# Altium schematic symbol library Components.SchLib: 39 symbols
Pins are listed as number, name and electrical type; pins without a type are passive.

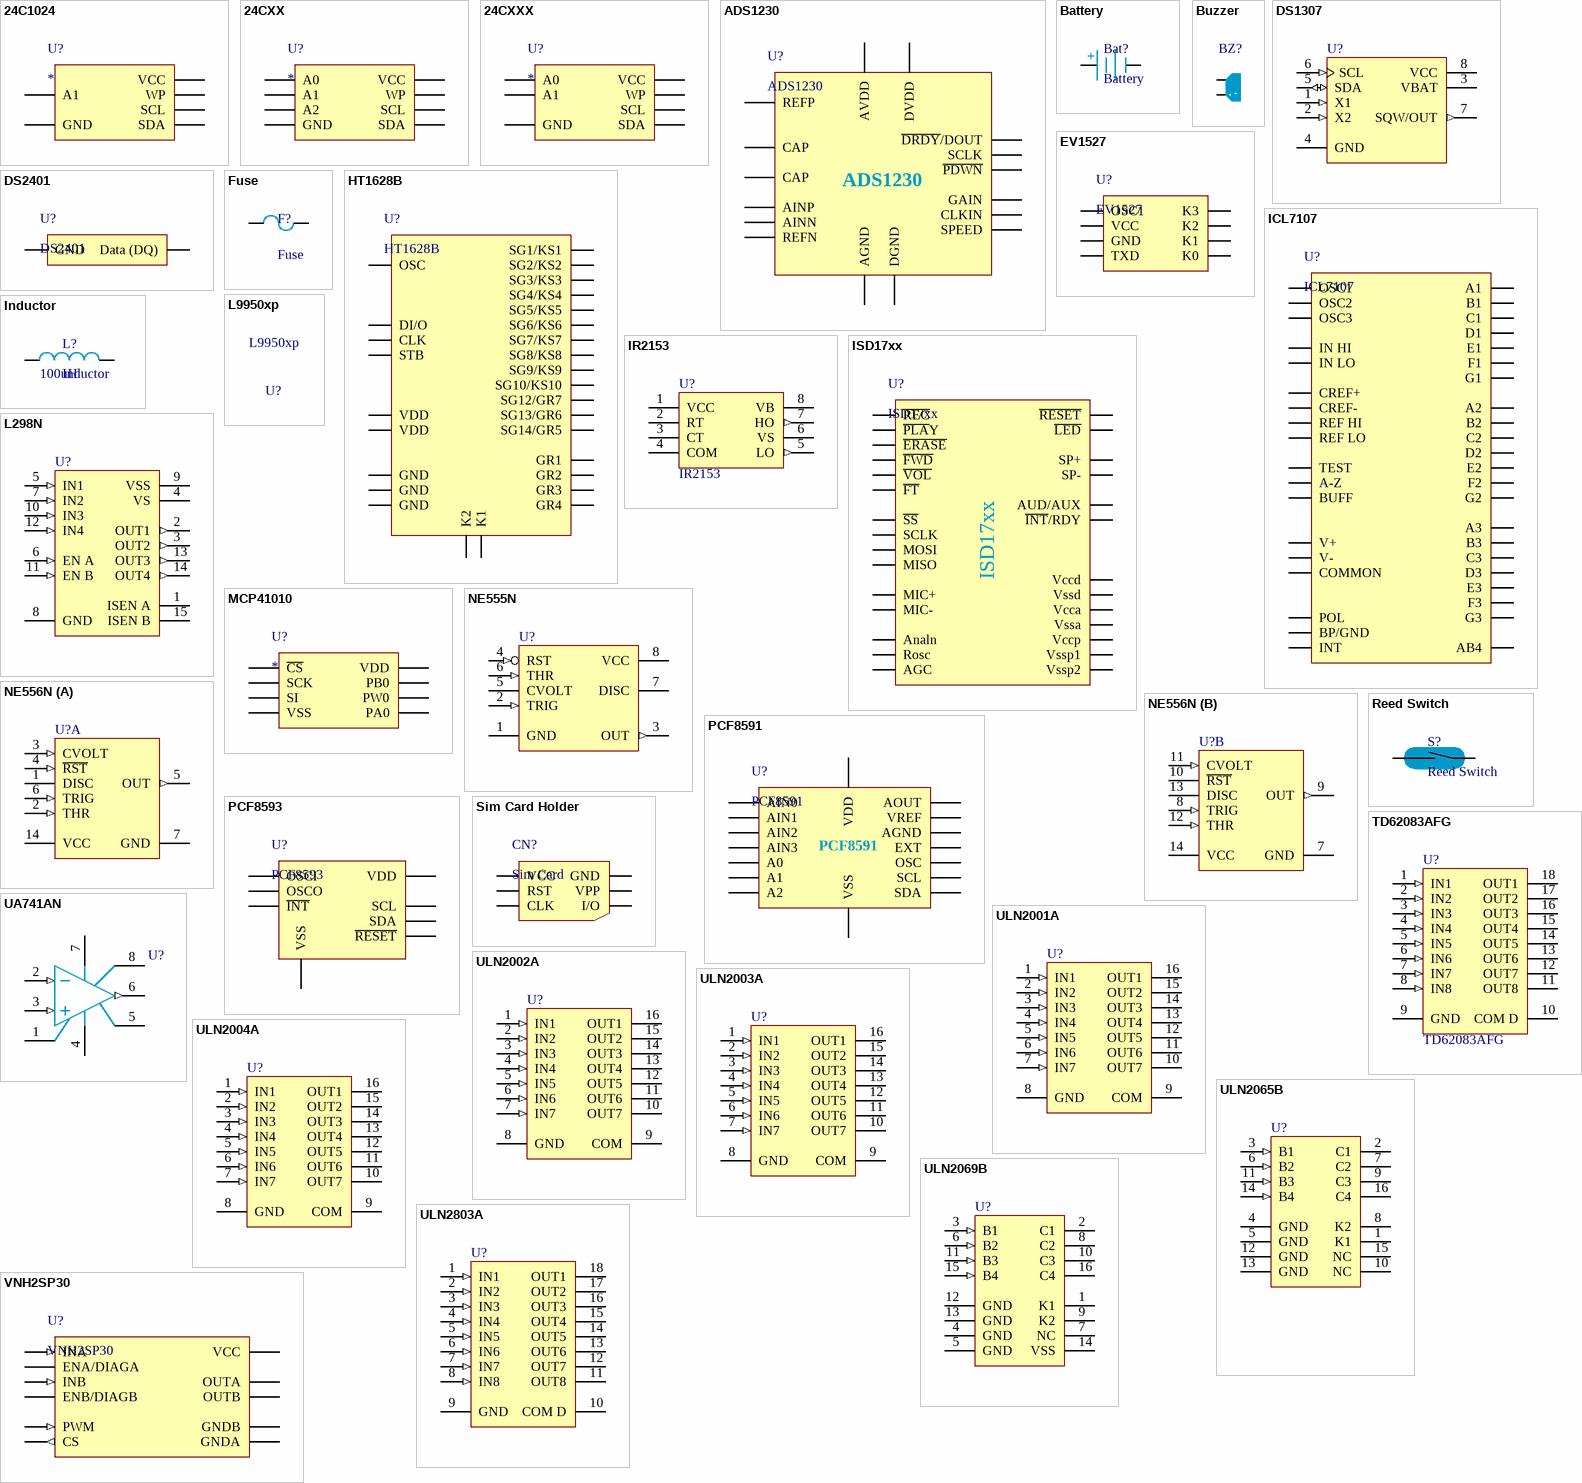
[diagram p0: symbols 24C1024 to VNH2SP30]

## 24C1024
designator U?
2-Wire Serial EEPROM
footprint DIP8
footprint TSSOP8
pins: 2 A1, 4 GND, 5 SDA, 6 SCL, 7 WP, 8 VCC

## 24CXX
designator U?
2-Wire Serial EEPROM
footprint DIP8
footprint TSSOP8
pins: 1 A0, 2 A1, 3 A2, 4 GND, 5 SDA, 6 SCL, 7 WP, 8 VCC

## 24CXXX
designator U?
2-Wire Serial EEPROM
footprint DIP8
footprint TSSOP8
pins: 1 A0, 2 A1, 4 GND, 5 SDA, 6 SCL, 7 WP, 8 VCC

## ADS1230
designator U?
20-Bit Analog-to-Digital Converter For Bridge Sensors
footprint TSSOP16
pins: 1 DVDD, 2 DGND, 3 CLKIN, 4 GAIN, 5 CAP, 6 CAP, 7 AINP, 8 AINN, 9 REFN, 10 REFP, 11 AGND, 12 AVDD, 13 SPEED, 14 ~{PDWN}, 15 SCLK, 16 ~{DRDY}/DOUT

## Battery
designator Bat?
footprint CR2032 (Battery holder)
pins: 1 +, 2 -

## Buzzer
designator BZ?  (value not drawn)
Piezo Buzzer
footprint Buzzer-12 (12mm Piezo Buzzer)
pins: A, K
text: +

## DS1307
designator U?
64 X 8 Serial Real-Time Clock; Published: 13-Oct-2000; LatestRevisionDate: 17-Jul-2002; LatestRevisionNote: Re-released for DXP Platform.; DatasheetVersion: 10-Aug-1999; PackageVersion: 1999; PackageReference: DIP8; Publisher: Altium Limited; PackageDescription: DIP, 8-Pin, Row Spacing 7.62 mm, Pitch 2.54 mm; ComponentLink1Description: Manufacturer Link; ComponentLink1URL: http://www.maxim-ic.com/; ComponentLink2Description: Datasheet; ComponentLink2URL: http://pdfserv.maxim-ic.com/en/ds/DS1307.pdf; ComponentLink3Description: Discontinuation Notice; ComponentLink3URL: http://www.maxim-ic.com/qa/pdfs/non-obsolescence-letter.pdf
footprint DIP8 (DIP, 8-Leads, Row Spacing 7.62mm, Pitch 2.54mm, Body 9.65x6.35mm)
footprint TSSOP8
pins: 1 X1 (in), 2 X2 (in), 3 VBAT (power), 4 GND (power), 5 SDA (io), 6 SCL (in), 7 SQW/OUT (out), 8 VCC (power)

## DS2401
designator U?
Silicon Serial Number
footprint SOT223-4L (SOT223, 4-Leads, Body 6.5x3.5mm, Pitch 2.3mm, Lead Span 7mm, IPC High Density); pin to pad 1>2+4 2>1
footprint TSOC6
pins: 1 GND, 2 Data (DQ)

## EV1527
designator U?
OTP Encoder
footprint TSSOP8
pins: 1 OSC1, 2 VCC, 3 GND, 4 TXD, 5 K0, 6 K1, 7 K2, 8 K3

## Fuse
designator F?
Published: 8-Jun-2000; LatestRevisionDate: 17-Jul-2002; LatestRevisionNote: Re-released for DXP Platform.; PackageReference: PIN-W2/E2.8; Publisher: Altium Limited; PackageDescription: Thru-Hole; 2 Leads
footprint F0603 (FUSE FAST 500mA, 1.6x0.8mm, 0603)
footprint F0805 (FUSE FAST 500mA, 0805, 2012, 2.0X1.3mm)
footprint F1206 (FUSE, 1206, 3.2x1.6mm)
footprint F1812 (FUSE, 4.50x3.20mm)
footprint F2410 (FUSE, 6x2.5mm)
footprint F2920 (FUSE, 7.7x5.3mm)
footprint FUSH_5X20MM (PCB Fuse Holder 5x20mm 2 PIN, pitch: 15.0mm  24x9mm)
footprint FUSH_5X20MM_4PIN (PCB Fuse Holder 5x20mm 4 PIN)
footprint FUSPCB_6MIL_WAVE (PCB Fuse, 6 mils wide, fuse time depends on substrate and current)
pins: 1, 2

## HT1628B
designator U?
DVD LED Driver IC
footprint TSSOP28
pins: 1 OSC, 2 DI/O, 3 CLK, 4 STB, 5 K1, 6 K2, 7 VDD, 8 SG1/KS1, 9 SG2/KS2, 10 SG3/KS3, 11 SG4/KS4, 12 SG5/KS5, 13 SG6/KS6, 14 SG7/KS7, 15 SG8/KS8, 16 SG9/KS9, 17 SG10/KS10, 18 SG12/GR7, 19 SG13/GR6, 20 SG14/GR5, 21 VDD, 22 GND, 23 GR4, 24 GR3, 25 GND, 26 GR2, 27 GR1, 28 GND

## ICL7107
designator U?
3 1/2 Digit, LCD/LED Display, A/D Converters
footprint DIP40
footprint LQFP44 (10*10*1.4)
pins: 1 V+, 2 D1, 3 C1, 4 B1, 5 A1, 6 F1, 7 G1, 8 E1, 9 D2, 10 C2, 11 B2, 12 A2, 13 F2, 14 E2, 15 D3, 16 B3, 17 F3, 18 E3, 19 AB4, 20 POL, 21 BP/GND, 22 G3, 23 A3, 24 C3, 25 G2, 26 V-, 27 INT, 28 BUFF, 29 A-Z, 30 IN LO, 31 IN HI, 32 COMMON, 33 CREF-, 34 CREF+, 35 REF LO, 36 REF HI, 37 TEST, 38 OSC3, 39 OSC2, 40 OSC1

## Inductor
designator L?  value 100uH
footprint ind-brl-11*12-200mil (Barrel Inductor - Dimenssion 10*14 (D,H) - 200mil Pitch)
footprint ind-brl-10*14-200mil (Barrel Inductor - Dimenssion 10*14 (D,H) - 200mil Pitch)
pins: 1, 2

## IR2153
designator U?
Self-Oscillating Half-Bridge Driver; Published: 8-Jun-2000; LatestRevisionDate: 04-Mar-2005; LatestRevisionNote: Stylized 3D Model Added.; DatasheetVersion: PD60062J; PackageReference: PDIP8; Publisher: Altium Limited; PackageDescription: DIP; 8 Leads; Row Spacing 7.62 mm; Pitch 2.54 mm; Code_JEDEC: MO-001-AN; ComponentLink1Description: Manufacturer Link; ComponentLink1URL: http://www.irf.com/; ComponentLink2Description: Datasheet; ComponentLink2URL: http://www.irf.com/product-info/datasheets/data/ir2153.pdf
footprint DIP8
footprint TSSOP8
pins: 1 VCC (power), 2 RT, 3 CT, 4 COM (power), 5 LO (out), 6 VS (power), 7 HO (out), 8 VB (power)

## ISD17xx
designator U?
Multi Message Single Chip Voice Record & Playback
footprint TSSOP28
footprint DIP28 - 600MIL
pins: 1 Vccd, 2 ~{LED}, 3 ~{RESET}, 4 MISO, 5 MOSI, 6 SCLK, 7 ~{SS}, 8 Vssa, 9 Analn, 10 MIC+, 11 MIC-, 12 Vssp2, 13 SP-, 14 Vccp, 15 SP+, 16 Vssp1, 17 AUD/AUX, 18 AGC, 19 ~{VOL}, 20 Rosc, 21 Vcca, 22 ~{FT}, 23 ~{PLA}Y, 24 ~{REC}, 25 ~{ERASE}, 26 ~{FWD}, 27 ~{INT}/RDY, 28 Vssd

## L298N
designator U?
Dual Full Bridge Driver; Published: 8-Jun-2000; LatestRevisionDate: 14-May-2007; LatestRevisionNote: Mapped to vertical PCB.; DatasheetVersion: Jul-1999; PackageReference: Multiwatt15V; Publisher: Altium Limited; PackageDescription: TO, Thru-Hole, Vertical, Heatsink Mounted; 15 Bent Staggered Leads; Pitch 1.27 mm; ComponentLink1Description: Manufacturer Link; ComponentLink1URL: http://www.st.com/; ComponentLink2Description: Datasheet; ComponentLink2URL: http://www.st.com/stonline/products/literature/ds/1773/l298.pdf
footprint Multiwatt15V (TO, Thru-Hole, Vertical, Heatsink Mounted; 15 Bent Staggered Leads; Pitch 1.27 mm)
pins: 1 ISEN A, 2 OUT1 (out), 3 OUT2 (out), 4 VS (power), 5 IN1 (in), 6 EN A (in), 7 IN2 (in), 8 GND (power), 9 VSS (power), 10 IN3 (in), 11 EN B (in), 12 IN4 (in), 13 OUT3 (out), 14 OUT4 (out), 15 ISEN B

## L9950xp
designator U?
Door actuator driver

## MCP41010
designator U?
Single Digital Potentiometer with SPI Interface
footprint TSSOP8
pins: 1 ~{CS}, 2 SCK, 3 SI, 4 VSS, 5 VDD, 6 PB0, 7 PW0, 8 PA0

## NE555N
designator U?
General-Purpose Single Bipolar Timer; Published: 24-Aug-2001; LatestRevisionDate: 06-Jun-2005; LatestRevisionNote: Stylized 3D Model Added.; DatasheetVersion: Jul-1998; PackageReference: DIP8; Publisher: Altium Limited; PackageDescription: DIP; 8 Leads; Row Spacing 7.62 mm; Pitch 2.54 mm; Code_JEDEC: MO-001-AN; ComponentLink1Description: Manufacturer Link; ComponentLink1URL: http://www.st.com/; ComponentLink2Description: Datasheet; ComponentLink2URL: http://www.st.com/stonline/products/literature/ds/2182/ne555.pdf
footprint DIP8
footprint TSSOP8
pins: 1 GND (power), 2 TRIG (in), 3 OUT (out), 4 RST (in), 5 CVOLT, 6 THR (in), 7 DISC (oc), 8 VCC (power)

## NE556N
designator U?
General-Purpose Dual Bipolar Timer; Published: 24-Aug-2001; LatestRevisionDate: 06-Jun-2005; LatestRevisionNote: Stylized 3D Model Added.; DatasheetVersion: Jul-1998; PackageVersion: Jan-1997; PackageReference: DIP14; Publisher: Altium Limited; PackageDescription: DIP; 14 Leads; Row Spacing 7.62 mm; Pitch 2.54 mm; ComponentLink1Description: Manufacturer Link; ComponentLink1URL: http://www.st.com/; ComponentLink2Description: Datasheet; ComponentLink2URL: http://www.st.com/stonline/products/literature/ds/2183/ne556.pdf
footprint DIP14
pins on every part: 7 GND (power), 14 VCC (power)
part A pins: 1 DISC (oc), 2 THR (in), 3 CVOLT (in), 4 ~{RST} (in), 5 OUT (out), 6 TRIG (in)
part B pins: 8 TRIG (in), 9 OUT (out), 10 ~{RST}, 11 CVOLT (in), 12 THR (in), 13 DISC (oc)

## PCF8591
designator U?
8-bit A/D and D/A converter
footprint SO16W
footprint DIP16 (DIP; 16 Leads; Row Spacing 7.62mm; Pitch 2.54mm)
pins: 1 AIN0, 2 AIN1, 3 AIN2, 4 AIN3, 5 A0, 6 A1, 7 A2, 8 VSS, 9 SDA, 10 SCL, 11 OSC, 12 EXT, 13 AGND, 14 VREF, 15 AOUT, 16 VDD

## PCF8593
designator U?
Low power clock and calendar
footprint DIP8
footprint TSSOP8
pins: 1 OSCI, 2 OSCO, 3 ~{RESET}, 4 VSS, 5 SDA, 6 SCL, 7 ~{INT}, 8 VDD

## Reed Switch
designator S?
Single contact reed switch
footprint reed-16-850
pins: 1, 2

## Sim Card Holder
designator CN?, comment Sim Card
footprint SimCard Holder
pins: 1 VCC, 2 RST, 3 CLK, 4 GND, 5 VPP, 6 I/O

## TD62083AFG
designator U?
Eight Darlington Array; Published: 8-Jun-2000; LatestRevisionDate: 06-Jun-2005; LatestRevisionNote: Stylized 3D Model Added.; DatasheetVersion: Sep-1997; PackageReference: DIP18; Publisher: Altium Limited; PackageDescription: DIP; 18 Leads; Row Spacing 7.62 mm; Pitch 2.54 mm; ComponentLink1Description: Manufacturer Link; ComponentLink1URL: http://www.st.com/; ComponentLink2Description: Datasheet; ComponentLink2URL: http://www.st.com/stonline/products/literature/ds/1536/uln2801a.pdf
footprint SOIC-18
pins: 1 IN1 (in), 2 IN2 (in), 3 IN3 (in), 4 IN4 (in), 5 IN5 (in), 6 IN6 (in), 7 IN7 (in), 8 IN8 (in), 9 GND (power), 10 COM D, 11 OUT8 (oc), 12 OUT7 (oc), 13 OUT6 (oc), 14 OUT5 (oc), 15 OUT4 (oc), 16 OUT3 (oc), 17 OUT2 (oc), 18 OUT1 (oc)

## UA741AN
designator U?
General-Purpose Single Operational Amplifier; Published: 24-Aug-2001; LatestRevisionDate: 06-Jun-2005; LatestRevisionNote: Stylized 3D Model Added.; DatasheetVersion: Oct-1997; PackageReference: DIP8; Publisher: Altium Limited; PackageDescription: DIP; 8 Leads; Row Spacing 7.62 mm; Pitch 2.54 mm; Code_JEDEC: MO-001-AN; ComponentLink1Description: Manufacturer Link; ComponentLink1URL: http://www.st.com/; ComponentLink2Description: Datasheet; ComponentLink2URL: http://www.st.com/stonline/products/literature/ds/5304/ua741.pdf
footprint DIP8
pins: 1 OS NULL, 2 IN- (in), 3 IN+ (in), 4 V- (power), 5 OS NULL, 6 OUT (out), 7 V+ (power), 8 NC

## ULN2001A
designator U?
Seven Darlington Array; Published: 8-Jun-2000; LatestRevisionDate: 06-Jun-2005; LatestRevisionNote: Stylized 3D Model Added.; DatasheetVersion: Sep-1998; PackageVersion: Apr-1996; PackageReference: DIP16; Publisher: Altium Limited; PackageDescription: DIP; 16 Leads; Row Spacing 7.62 mm; Pitch 2.54 mm; ComponentLink1Description: Manufacturer Link; ComponentLink1URL: http://www.st.com/; ComponentLink2Description: Datasheet; ComponentLink2URL: http://www.st.com/stonline/products/literature/ds/5279/uln2001.pdf
footprint DIP16 (DIP; 16 Leads; Row Spacing 7.62 mm; Pitch 2.54 mm)
footprint SO16
pins: 1 IN1 (in), 2 IN2 (in), 3 IN3 (in), 4 IN4 (in), 5 IN5 (in), 6 IN6 (in), 7 IN7 (in), 8 GND (power), 9 COM, 10 OUT7 (oc), 11 OUT6 (oc), 12 OUT5 (oc), 13 OUT4 (oc), 14 OUT3 (oc), 15 OUT2 (oc), 16 OUT1 (oc)

## ULN2002A
designator U?
Seven Darlington Array; Published: 8-Jun-2000; LatestRevisionDate: 06-Jun-2005; LatestRevisionNote: Stylized 3D Model Added.; DatasheetVersion: Sep-1998; PackageVersion: Apr-1996; PackageReference: DIP16; Publisher: Altium Limited; PackageDescription: DIP; 16 Leads; Row Spacing 7.62 mm; Pitch 2.54 mm; ComponentLink1Description: Manufacturer Link; ComponentLink1URL: http://www.st.com/; ComponentLink2Description: Datasheet; ComponentLink2URL: http://www.st.com/stonline/products/literature/ds/5279/uln2001.pdf
footprint DIP16
footprint SO16
pins: 1 IN1 (in), 2 IN2 (in), 3 IN3 (in), 4 IN4 (in), 5 IN5 (in), 6 IN6 (in), 7 IN7 (in), 8 GND (power), 9 COM, 10 OUT7 (oc), 11 OUT6 (oc), 12 OUT5 (oc), 13 OUT4 (oc), 14 OUT3 (oc), 15 OUT2 (oc), 16 OUT1 (oc)

## ULN2003A
designator U?
Seven Darlington Array; Published: 8-Jun-2000; LatestRevisionDate: 06-Jun-2005; LatestRevisionNote: Stylized 3D Model Added.; DatasheetVersion: Sep-1998; PackageVersion: Apr-1996; PackageReference: DIP16; Publisher: Altium Limited; PackageDescription: DIP; 16 Leads; Row Spacing 7.62 mm; Pitch 2.54 mm; ComponentLink1Description: Manufacturer Link; ComponentLink1URL: http://www.st.com/; ComponentLink2Description: Datasheet; ComponentLink2URL: http://www.st.com/stonline/products/literature/ds/5279/uln2001.pdf
footprint DIP16
footprint SO16
pins: 1 IN1 (in), 2 IN2 (in), 3 IN3 (in), 4 IN4 (in), 5 IN5 (in), 6 IN6 (in), 7 IN7 (in), 8 GND (power), 9 COM, 10 OUT7 (oc), 11 OUT6 (oc), 12 OUT5 (oc), 13 OUT4 (oc), 14 OUT3 (oc), 15 OUT2 (oc), 16 OUT1 (oc)

## ULN2004A
designator U?
Seven Darlington Array; Published: 8-Jun-2000; LatestRevisionDate: 06-Jun-2005; LatestRevisionNote: Stylized 3D Model Added.; DatasheetVersion: Sep-1998; PackageVersion: Apr-1996; PackageReference: DIP16; Publisher: Altium Limited; PackageDescription: DIP; 16 Leads; Row Spacing 7.62 mm; Pitch 2.54 mm; ComponentLink1Description: Manufacturer Link; ComponentLink1URL: http://www.st.com/; ComponentLink2Description: Datasheet; ComponentLink2URL: http://www.st.com/stonline/products/literature/ds/5279/uln2001.pdf
footprint DIP16 (DIP; 16 Leads; Row Spacing 7.62 mm; Pitch 2.54 mm)
footprint SO16
pins: 1 IN1 (in), 2 IN2 (in), 3 IN3 (in), 4 IN4 (in), 5 IN5 (in), 6 IN6 (in), 7 IN7 (in), 8 GND (power), 9 COM, 10 OUT7 (oc), 11 OUT6 (oc), 12 OUT5 (oc), 13 OUT4 (oc), 14 OUT3 (oc), 15 OUT2 (oc), 16 OUT1 (oc)

## ULN2065B
designator U?
80 V -1.5 A Quad Darlington Switch; Published: 8-Jun-2000; LatestRevisionDate: 06-Jun-2005; LatestRevisionNote: Stylized 3D Model Added.; DatasheetVersion: Apr-1993; PackageVersion: Apr-1996; PackageReference: DIP16; Publisher: Altium Limited; PackageDescription: DIP; 16 Leads; Row Spacing 7.62 mm; Pitch 2.54 mm; ComponentLink1Description: Manufacturer Link; ComponentLink1URL: http://www.st.com/; ComponentLink2Description: Datasheet; ComponentLink2URL: http://www.st.com/stonline/products/literature/ds/1535/uln2065b.pdf
footprint DIP16 (DIP; 16 Leads; Row Spacing 7.62 mm; Pitch 2.54 mm)
pins: 1 K1, 2 C1 (oc), 3 B1 (in), 4 GND (power), 5 GND (power), 6 B2 (in), 7 C2 (oc), 8 K2, 9 C3 (oc), 10 NC, 11 B3 (in), 12 GND (power), 13 GND (power), 14 B4 (in), 15 NC, 16 C4 (oc)

## ULN2069B
designator U?
80 V -1.5 A Quad Darlington Switch; Published: 8-Jun-2000; LatestRevisionDate: 06-Jun-2005; LatestRevisionNote: Stylized 3D Model Added.; DatasheetVersion: Apr-1993; PackageVersion: Apr-1996; PackageReference: DIP16; Publisher: Altium Limited; PackageDescription: DIP; 16 Leads; Row Spacing 7.62 mm; Pitch 2.54 mm; ComponentLink1Description: Manufacturer Link; ComponentLink1URL: http://www.st.com/; ComponentLink2Description: Datasheet; ComponentLink2URL: http://www.st.com/stonline/products/literature/ds/1535/uln2065b.pdf
footprint DIP16 (DIP; 16 Leads; Row Spacing 7.62 mm; Pitch 2.54 mm)
pins: 1 K1, 2 C1 (oc), 3 B1 (in), 4 GND (power), 5 GND (power), 6 B2 (in), 7 NC, 8 C2 (oc), 9 K2, 10 C3 (oc), 11 B3 (in), 12 GND (power), 13 GND (power), 14 VSS (power), 15 B4 (in), 16 C4 (oc)

## ULN2803A
designator U?
Eight Darlington Array; Published: 8-Jun-2000; LatestRevisionDate: 06-Jun-2005; LatestRevisionNote: Stylized 3D Model Added.; DatasheetVersion: Sep-1997; PackageReference: DIP18; Publisher: Altium Limited; PackageDescription: DIP; 18 Leads; Row Spacing 7.62 mm; Pitch 2.54 mm; ComponentLink1Description: Manufacturer Link; ComponentLink1URL: http://www.st.com/; ComponentLink2Description: Datasheet; ComponentLink2URL: http://www.st.com/stonline/products/literature/ds/1536/uln2801a.pdf
footprint DIP18
footprint SOIC-18
pins: 1 IN1 (in), 2 IN2 (in), 3 IN3 (in), 4 IN4 (in), 5 IN5 (in), 6 IN6 (in), 7 IN7 (in), 8 IN8 (in), 9 GND (power), 10 COM D, 11 OUT8 (oc), 12 OUT7 (oc), 13 OUT6 (oc), 14 OUT5 (oc), 15 OUT4 (oc), 16 OUT3 (oc), 17 OUT2 (oc), 18 OUT1 (oc)

## VNH2SP30
designator U?
Automotive fully integrated H-bridge motor driver - 30A
footprint MultiPowerSO-30
pins: 1 OUTA, 3 VCC, 5 INA (in), 6 ENA/DIAGA, 8 PWM (in), 9 CS (out), 10 ENB/DIAGB, 11 INB (in), 13 VCC, 15 OUTB, 16 OUTB, 18 GNDB, 19 GNDB, 20 GNDB, 21 OUTB, 23 VCC, 25 OUTA, 26 GNDA, 27 GNDA, 28 GNDA, 30 OUTA, 31 VCC, 32 OUTB, 33 OUTA

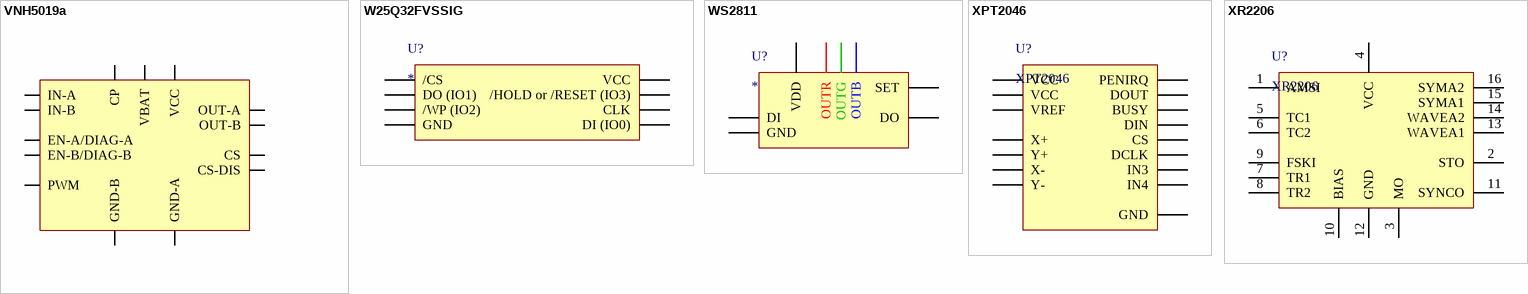
[diagram p1: symbols VNH5019a to XR2206]

## VNH5019a
designator J?
Automotive fully integrated H-bridge motor driver
footprint MultiPowerSO-30
pins: 1 OUT-A, 3 VCC, 4 IN-A, 5 EN-A/DIAG-A, 6 CS-DIS, 7 PWM, 8 CS, 9 EN-B/DIAG-B, 10 IN-B, 11 CP, 12 VBAT, 13 VCC, 15 OUT-B, 16 OUT-B, 18 GND-B, 19 GND-B, 20 GND-B, 21 OUT-B, 23 VCC, 25 OUT-A, 26 GND-A, 27 GND-A, 28 GND-A, 30 OUT-A, 31 VCC, 32 OUT-B, 33 OUT-A

## W25Q32FVSSIG
designator U?
SERIAL FLASH MEMORY WITH DUAL/QUAD SPI & QPI
footprint TSSOP8
pins: 1 /CS, 2 DO (IO1), 3 /WP (IO2), 4 GND, 5 DI (IO0), 6 CLK, 7 /HOLD or /RESET (IO3), 8 VCC

## WS2811
designator U?
Signal line 256 Gray level 3 channal Constant current LED drive IC
footprint DIP8
footprint TSSOP8
pins: 1 OUTR, 2 OUTG, 3 OUTB, 4 GND, 5 DO, 6 DI, 7 SET, 8 VDD

## XPT2046
designator U?
Touch Screen Controller
footprint TSSOP16
pins: 1 VCC, 2 X+, 3 Y+, 4 X-, 5 Y-, 6 GND, 7 IN3, 8 IN4, 9 VREF, 10 VCC, 11 PENIRQ, 12 DOUT, 13 BUSY, 14 DIN, 15 CS, 16 DCLK

## XR2206
designator U?
Monolithic Function Generator
footprint DIP16
pins: 1 AMSI, 2 STO, 3 MO, 4 VCC, 5 TC1, 6 TC2, 7 TR1, 8 TR2, 9 FSKI, 10 BIAS, 11 SYNCO, 12 GND, 13 WAVEA1, 14 WAVEA2, 15 SYMA1, 16 SYMA2